# Altium schematic symbol library lm317t.SchLib: 1 symbol
Pins are listed as number, name and electrical type; pins without a type are passive.

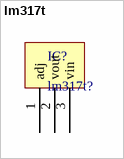
[diagram p0: symbol lm317t]

## lm317t
designator IC?, comment lm317t?
pins: 1 adj, 2 vout, 3 vin